# Altium schematic symbol library M20-9980346.SchLib: 1 symbol
Pins are listed as number, name and electrical type; pins without a type are passive.

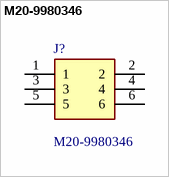
[diagram p0: symbol M20-9980346]

## M20-9980346
designator J?
M20: 3+3 Pos Plug DIL Straight 3mm THT Connector 6.1mm pin Tin; Manufacturer_Name: Harwin; Geometry.Height: 8.64mm; Mouser Part Number: 855-M20-9980346; Mouser Price/Stock: https://www.mouser.co.uk/ProductDetail/Harwin/M20-9980346?qs=%252Bk6%2F5FB6qrmHk2P20oz3FA%3D%3D; Manufacturer_Part_Number: M20-9980346; Datasheet Link: https://content.harwin.com/m/a754d23f2d366891/original/DRG-00478-Technical-Drawing-Datasheet-M20-998-pdf.pdf
footprint HDRV6W64P254_2X3_762X508X864P
pins: 1, 2, 3, 4, 5, 6